# EAGLE library part CCM05 (library sd)
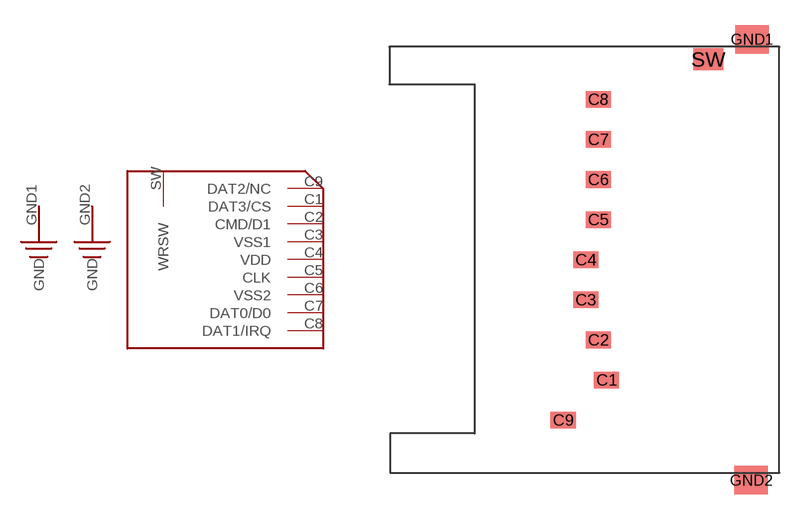
[diagram p0: symbol with the pads of CCM05; footprint CCM05]

Designator prefix -; gates SDCARD=SD/MMC GND1=GND GND2=GND

## CCM05  [CCM05]
C1  SDCARD:DAT3/CS
C2  SDCARD:CMD/D1
C3  SDCARD:VSS1
C4  SDCARD:VDD
C5  SDCARD:CLK
C6  SDCARD:VSS2
C7  SDCARD:DAT0/D0
C8  SDCARD:DAT1/IRQ
C9  SDCARD:DAT2/NC
GND1  GND1:GND
GND2  GND2:GND
SW  SDCARD:WRSW

## Footprint CCM05 (pad centres in mm)
smd 1.5 x 1: C1 1.25,-7.2; C2 0.75,-4.8; C3 0,-2.4; C4 0,0; C5 0.75,2.4; C6 0.75,4.8; C7 0.75,7.2; C8 0.75,9.6; C9 -1.35,-9.6
smd 2 x 1.7: GND1 9.95,13.2; GND2 9.9,-13.2
smd 1.8 x 1.3: SW 7.35,12